# Altium schematic symbol library BW0253_R0M0E0.SchLib: 1 symbol
Pins are listed as number, name and electrical type; pins without a type are passive.

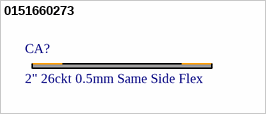
[diagram p0: symbol 0151660273]

## 0151660273
designator CA?, comment 2" 26ckt 0.5mm Same Side Flex
FFC 0.50 TYPE A 26 CKTS LGT 51; Manufacturer 1: Molex; Manufacturer Part Number 1: 0151660273; Number of Conductors: 26; Wire/Cable Type: Flat Flex; Pitch: 0.02inch; Supplier 1: Digi-Key; RoHS: Yes; Category: Cables and Wire; Stock 1: 738; Pricing 1: 1=2.00000, 10=1.81500, 25=1.70400, 50=1.63000, 100=1.55590, 250=1.40772, 500=1.29658, 1000=1.11135, 2500=1.03726 (USD); Number of Pins: 26; Packaging: Bulk; Package Quantity: 1000; Length: 2inch; Cable Pitch: 0.5mm; Radiation Hardening: No; ComponentLink1URL: https://datasheet.ciiva.com/10989/0151660273-cable-10989027.pdf?src-supplier=Avnet; ComponentLink1Description: https://datasheet.ciiva.com/10989/0151660273-cable-10989027.pdf?src-supplier=Avnet; ComponentLink2URL: https://datasheet.ciiva.com/2944/151660051-sd-2944368.pdf?src-supplier=Digi-Key; ComponentLink2Description: https://datasheet.ciiva.com/2944/151660051-sd-2944368.pdf?src-supplier=Digi-Key; Supplier 2: Mouser; Supplier Part Number 2: 538-15166-0273; Supplier Part Number 1: WM11306-ND